# EAGLE library part 71430-015 (library con-molex-vhdci)
VHDCI CONNECTOR
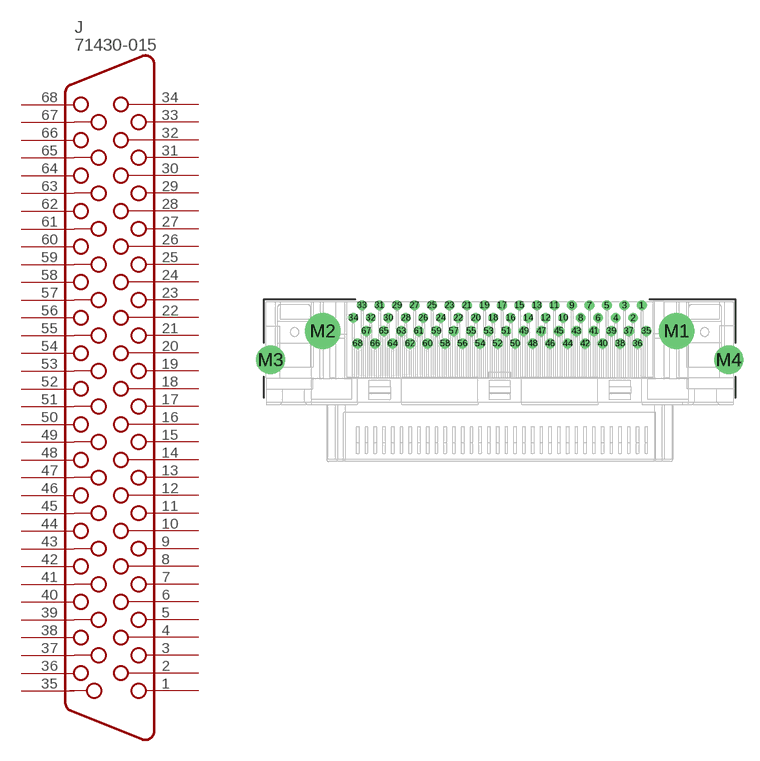
[diagram p0: symbol with the pads of 71430-015; footprint 71430-015]

Designator prefix J

## 71430-015  [71430-015]
1  1
2  2
3  3
4  4
5  5
6  6
7  7
8  8
9  9
10  10
11  11
12  12
13  13
14  14
15  15
16  16
17  17
18  18
19  19
20  20
21  21
22  22
23  23
24  24
25  25
26  26
27  27
28  28
29  29
30  30
31  31
32  32
33  33
34  34
35  35
36  36
37  37
38  38
39  39
40  40
41  41
42  42
43  43
44  44
45  45
46  46
47  47
48  48
49  49
50  50
51  51
52  52
53  53
54  54
55  55
56  56
57  57
58  58
59  59
60  60
61  61
62  62
63  63
64  64
65  65
66  66
67  67
68  68

## Footprint 71430-015 (pad centres in mm)
CONNECTOR 68-pin 1.27mm (.050 inch) pitch SCSI+ unshielded receptacle right angle all plastic
drill 0.381: 1 13.005,2.35; 2 12.205,1.2; 3 11.405,2.35; 4 10.605,1.2; 5 9.805,2.35; 6 9.005,1.2; 7 8.205,2.35; 8 7.405,1.2; 9 6.605,2.35; 10 5.805,1.2; 11 5.005,2.35; 12 4.205,1.2; 13 3.405,2.35; 14 2.605,1.2; 15 1.805,2.35; 16 1.005,1.2; 17 0.205,2.35; 18 -0.595,1.2; 19 -1.395,2.35; 20 -2.195,1.2; 21 -2.995,2.35; 22 -3.795,1.2; 23 -4.595,2.35; 24 -5.395,1.2; 25 -6.195,2.35; 26 -6.995,1.2; 27 -7.795,2.35; 28 -8.595,1.2; 29 -9.395,2.35; 30 -10.195,1.2; 31 -10.995,2.35; 32 -11.795,1.2; 33 -12.595,2.35; 34 -13.395,1.2; 35 13.405,0; 36 12.605,-1.15; 37 11.805,0; 38 11.005,-1.15; 39 10.205,0; 40 9.405,-1.15; 41 8.605,0; 42 7.805,-1.15; 43 7.005,0; 44 6.205,-1.15; 45 5.405,0; 46 4.605,-1.15; 47 3.805,0; 48 3.005,-1.15; 49 2.205,0; 50 1.405,-1.15; 51 0.605,0; 52 -0.195,-1.15; 53 -0.995,0; 54 -1.795,-1.15; 55 -2.595,0; 56 -3.395,-1.15; 57 -4.195,0; 58 -4.995,-1.15; 59 -5.795,0; 60 -6.595,-1.15; 61 -7.395,0; 62 -8.195,-1.15; 63 -8.995,0; 64 -9.795,-1.15; 65 -10.595,0; 66 -11.395,-1.15; 67 -12.195,0; 68 -12.995,-1.15
drill 2.25: M1 16.175,0; M2 -16.175,0
drill 1.75: M3 -20.95,-2.63; M4 20.95,-2.63